# EAGLE library part 62502022021 (library Wire-to-Board)
WR-BHD 2.00mm Male Box Header With Lever, 20 Pins=>Code : Con_WTB_BHD_2.00_Male_THT_62502022021 <http://katalog.we-online.de/media/thumbs2/eican/thb_Con_WTB_BHD_2.00_Male_THT_6250xx22021_pf2.jpg> Details see: http://katalog.we-online.de/en/em/625_0xx_220_21 Created 2014-06-05, Karrer Zheng 2014 (C) Würth Elektronik
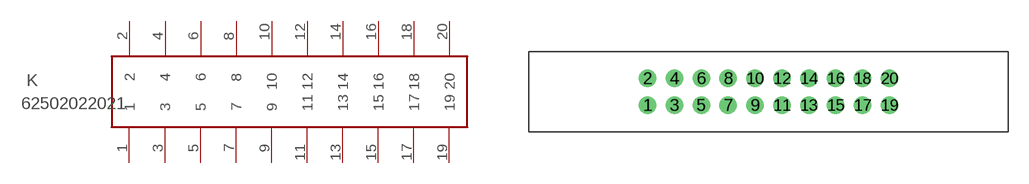
[diagram p227: symbol with the pads of 62502022021; footprint 62502022021]

Designator prefix K

## 62502022021  [62502022021]
1  1  pas
2  2  pas
3  3  pas
4  4  pas
5  5  pas
6  6  pas
7  7  pas
8  8  pas
9  9  pas
10  10  pas
11  11  pas
12  12  pas
13  13  pas
14  14  pas
15  15  pas
16  16  pas
17  17  pas
18  18  pas
19  19  pas
20  20  pas

## Footprint 62502022021 (pad centres in mm)
WR-BHD 2.00mm Male Box Header With Lever, 20 pins
drill 0.8: 1 -6,0; 2 -6,2; 3 -4,0; 4 -4,2; 5 -2,0; 6 -2,2; 7 0,0; 8 0,2; 9 2,0; 10 2,2; 11 4,0; 12 4,2; 13 6,0; 14 6,2; 15 8,0; 16 8,2; 17 10,0; 18 10,2; 19 12,0; 20 12,2